# EAGLE library part ESP12F (library ESP8266-ESP12F)
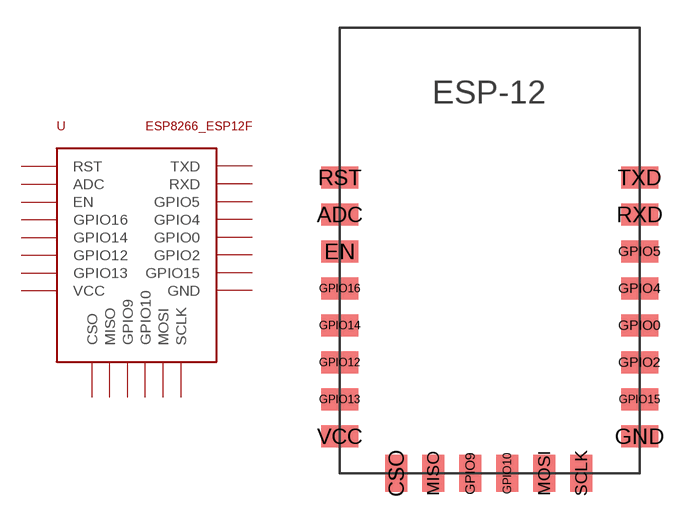
[diagram p0: symbol with the pads of ESP12F; footprint ESP12F]

Designator prefix -

## ESP12F  [ESP12F]
ADC  ADC
CSO  CSO
EN  EN
GND  GND
GPIO0  GPIO0
GPIO2  GPIO2
GPIO4  GPIO4
GPIO5  GPIO5
GPIO9  GPIO9
GPIO10  GPIO10
GPIO12  GPIO12
GPIO13  GPIO13
GPIO14  GPIO14
GPIO15  GPIO15
GPIO16  GPIO16
MISO  MISO
MOSI  MOSI
RST  RST
RXD  RXD
SCLK  SCLK
TXD  TXD
VCC  VCC

## Footprint ESP12F (pad centres in mm)
smd 2 x 1.2: ADC 0,14; EN 0,12; GND 16.2,2; GPIO0 16.2,8; GPIO2 16.2,6; GPIO4 16.2,10; GPIO5 16.2,12; GPIO12 0,6; GPIO13 0,4; GPIO14 0,8; GPIO15 16.2,4; GPIO16 0,10; RST 0,16; RXD 16.2,14; TXD 16.2,16; VCC 0,2
smd 1.2 x 2: CSO 3.05,0; GPIO9 7.05,0; GPIO10 9.05,0; MISO 5.05,0; MOSI 11.05,0; SCLK 13.05,0